# Altium schematic symbol library cd74hc4067_module.SchLib: 1 symbol
Pins are listed as number, name and electrical type; pins without a type are passive.

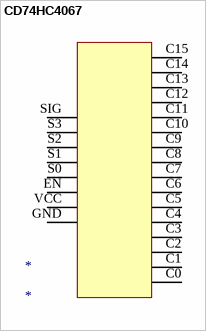
[diagram p0: symbol CD74HC4067]

## CD74HC4067
designator *
footprint CD74HC4067 Module
pins: C0 1, C1 2, C2 3, C3 4, C4 5, C5 6, C6 7, C7 8, C8 9, C9 10, C10 11, C11 12, C12 13, C13 14, C14 15, C15 16, EN C18, GND C16, S0 C19, S1 C20, S2 C21, S3 C22, SIG C23, VCC C17